# EAGLE library part NUCLEO-G431KB (library NUCLEO-G431KB)
STM32 Nucleo-32 development board Source: Datasheet <http://www.st.com/content/ccc/resource/technical/document/data_brief/b1/d8/13/d4/b0/b7/4b/6e/DM00214578.pdf/files/DM00214578.pdf/jcr:content/translations/en.DM00214578.pdf>
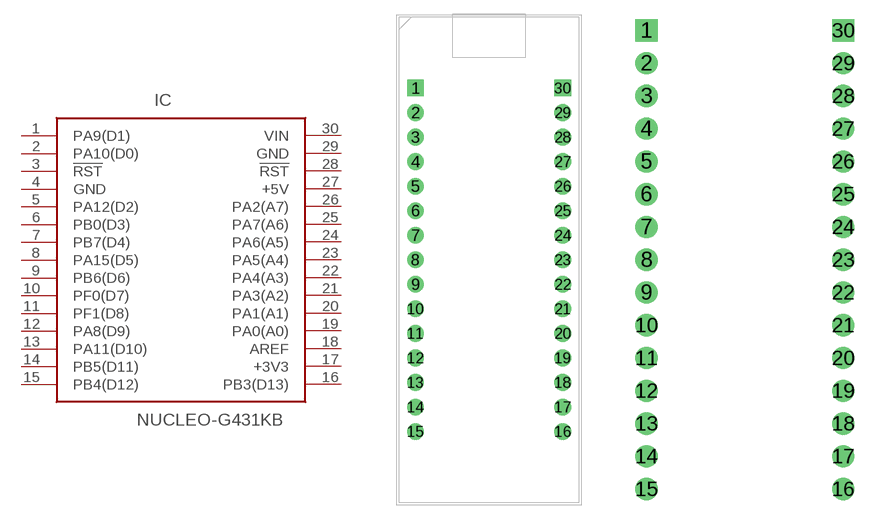
[diagram p0: symbol with the pads of DIPS1524W66P254L5029H1500Q30N; footprints DIPS1524W66P254L5029H1500Q30N, DIPS1524W66P254L5029H1500Q30N_WO_SILKSCREEN]

Designator prefix IC

## NUCLEO-G431KB (ARROW_PART_NUMBER: NUCLEO-F303K8; ARROW_PRICE-STOCK: https://www.arrow.com/en/products/nucleo-f303k8/stmicroelectronics; DESCRIPTION: STM32 Nucleo-32 development board; HEIGHT: 15mm; MANUFACTURER_NAME: STMicroelectronics; MANUFACTURER_PART_NUMBER: NUCLEO-F303K8; RS_PART_NUMBER: 9092862; RS_PRICE-STOCK: http://uk.rs-online.com/web/p/products/9092862)  [DIPS1524W66P254L5029H1500Q30N]
1  PA9(D1)
2  PA10(D0)
3  !RST
4  GND  pas
5  PA12(D2)
6  PB0(D3)
7  PB7(D4)
8  PA15(D5)
9  PB6(D6)
10  PF0(D7)
11  PF1(D8)
12  PA8(D9)
13  PA11(D10)
14  PB5(D11)
15  PB4(D12)
16  PB3(D13)
17  +3V3  pas
18  AREF  pas
19  PA0(A0)
20  PA1(A1)
21  PA3(A2)
22  PA4(A3)
23  PA5(A4)
24  PA6(A5)
25  PA7(A6)
26  PA2(A7)
27  +5V  pas
28  !RST
29  GND  pas
30  VIN  pas

## NUCLEO-G431KBNO_SILKSCREEN  [DIPS1524W66P254L5029H1500Q30N_WO_SILKSCREEN]
Pads as for DIPS1524W66P254L5029H1500Q30N

## Footprint DIPS1524W66P254L5029H1500Q30N (pad centres in mm)
arduino-nano
drill 1.15 pad 1.725 square: 1 -7.62,17.78; 30 7.62,17.78
drill 1.15 pad 1.725: 2 -7.62,15.24; 3 -7.62,12.7; 4 -7.62,10.16; 5 -7.62,7.62; 6 -7.62,5.08; 7 -7.62,2.54; 8 -7.62,0; 9 -7.62,-2.54; 10 -7.62,-5.08; 11 -7.62,-7.62; 12 -7.62,-10.16; 13 -7.62,-12.7; 14 -7.62,-15.24; 15 -7.62,-17.78; 16 7.62,-17.78; 17 7.62,-15.24; 18 7.62,-12.7; 19 7.62,-10.16; 20 7.62,-7.62; 21 7.62,-5.08; 22 7.62,-2.54; 23 7.62,0; 24 7.62,2.54; 25 7.62,5.08; 26 7.62,7.62; 27 7.62,10.16; 28 7.62,12.7; 29 7.62,15.24

## Footprint DIPS1524W66P254L5029H1500Q30N_WO_SILKSCREEN (pad centres in mm)
arduino-nano
drill 1.15 pad 1.725 square: 1 -7.62,17.78; 30 7.62,17.78
drill 1.15 pad 1.725: 2 -7.62,15.24; 3 -7.62,12.7; 4 -7.62,10.16; 5 -7.62,7.62; 6 -7.62,5.08; 7 -7.62,2.54; 8 -7.62,0; 9 -7.62,-2.54; 10 -7.62,-5.08; 11 -7.62,-7.62; 12 -7.62,-10.16; 13 -7.62,-12.7; 14 -7.62,-15.24; 15 -7.62,-17.78; 16 7.62,-17.78; 17 7.62,-15.24; 18 7.62,-12.7; 19 7.62,-10.16; 20 7.62,-7.62; 21 7.62,-5.08; 22 7.62,-2.54; 23 7.62,0; 24 7.62,2.54; 25 7.62,5.08; 26 7.62,7.62; 27 7.62,10.16; 28 7.62,12.7; 29 7.62,15.24